# EAGLE library part TPS40200 (library texas)
BUCK REGULATOR CONTROLER
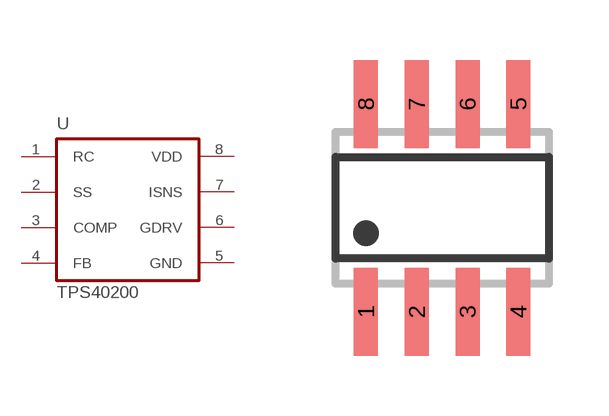
[diagram p116: symbol with the pads of SO08; footprint SO08]

Designator prefix U

## TPS40200D  [SO08]
1  RC  in
2  SS  in
3  COMP  out
4  FB  in
5  GND  pwr
6  GDRV  out
7  ISNS  in
8  VDD  pwr

## Footprint SO08 (pad centres in mm)
SMALL OUTLINE INTEGRATED CIRCUIT body 3.9 mm/JEDEC MS-012AA
smd 0.6 x 2.2: 1 -1.905,-2.6; 2 -0.635,-2.6; 3 0.635,-2.6; 4 1.905,-2.6; 5 1.905,2.6; 6 0.635,2.6; 7 -0.635,2.6; 8 -1.905,2.6